# EAGLE library part MPR084_16QFN (library Freescale_16QFN)
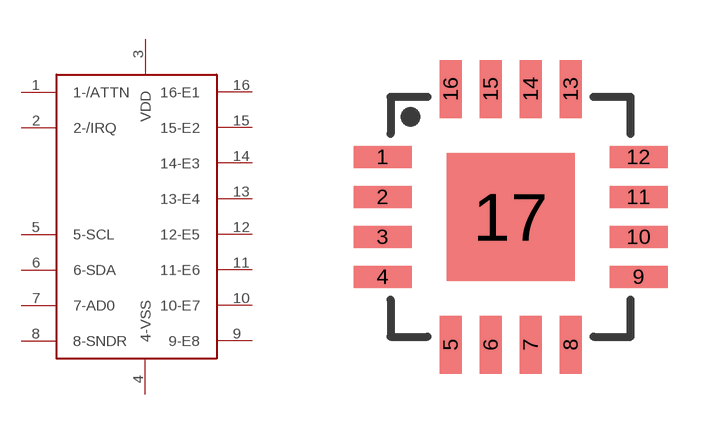
[diagram p1: symbol with the pads of QFN16-HS; footprint QFN16-HS]

Designator prefix -

## MPR084_16QFN  [QFN16-HS]
1  1-/ATTN
2  2-/IRQ
3  VDD
4  4-VSS
5  5-SCL
6  6-SDA
7  7-AD0
8  8-SNDR
9  9-E8
10  10-E7
11  11-E6
12  12-E5
13  13-E4
14  14-E3
15  15-E2
16  16-E1

## Footprint QFN16-HS (pad centres in mm)
smd 1.45 x 0.55: 1 -3.2,1.5; 2 -3.2,0.5; 3 -3.2,-0.5; 4 -3.2,-1.5; 9 3.2,-1.5; 10 3.2,-0.5; 11 3.2,0.5; 12 3.2,1.5
smd 0.55 x 1.45: 5 -1.5,-3.2; 6 -0.5,-3.2; 7 0.5,-3.2; 8 1.5,-3.2; 13 1.5,3.2; 14 0.5,3.2; 15 -0.5,3.2; 16 -1.5,3.2
smd 3.2 x 3.2: 17 0,0